# Altium footprint library 元器件.PCBLIB: 210 footprints (part 6 of 14)
Each footprint in its own frame and in the unit in brackets; x right, y up, seen from the top. Pads: shape width x height; smd on the part's side, far side on the other; paste and mask are expansions set on the pad; w line width, h text height; cw(c..) or ccw(c..) is an arc to the next point about the centre after c.
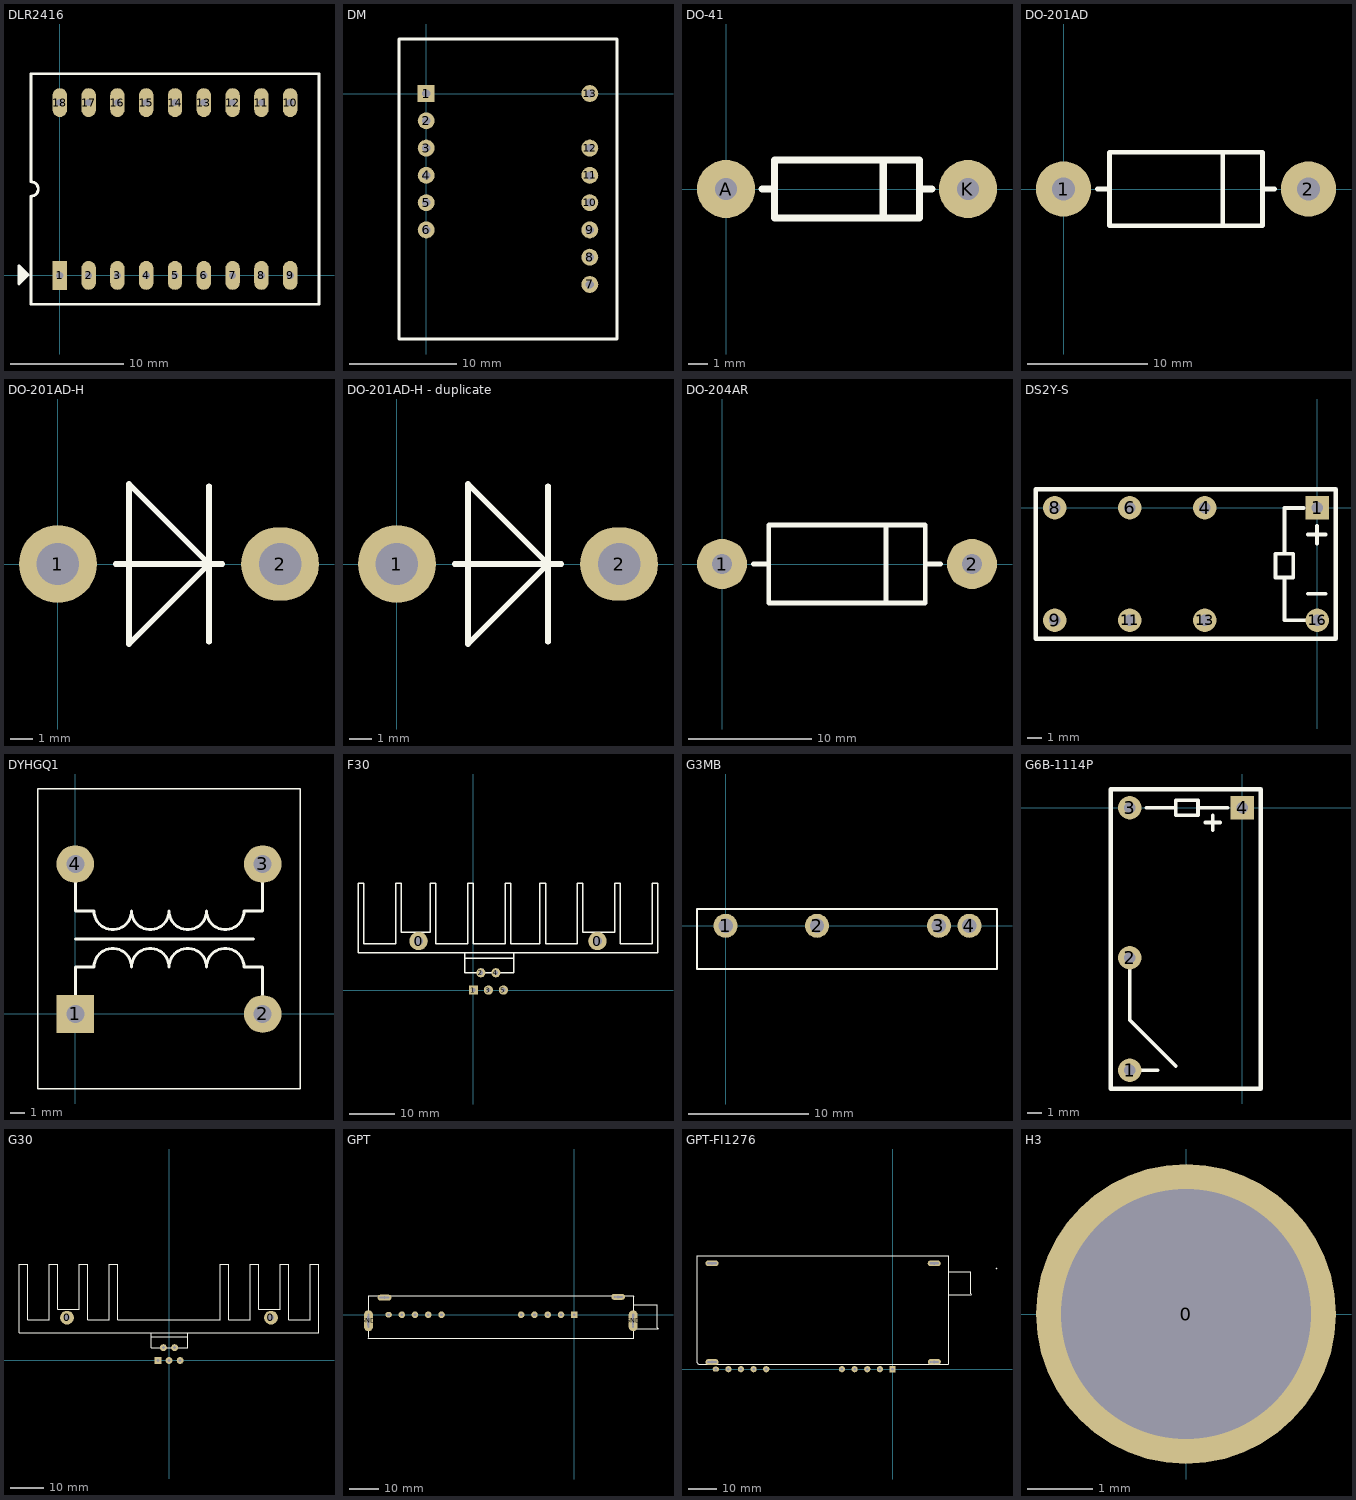
[diagram p5: the footprints below, top view; thin cyan lines are the x and y axes]

## DLR2416 [mil]
pads (18):
  rect 50x100 hole 25: 1(0,0)
  oval 50x100 hole 25: 2(100,0) 3(200,0) 4(300,0) 5(400,0) 6(500,0) 7(600,0) 8(700,0) 9(800,0) 10(800,600) 11(700,600) 12(600,600) 13(500,600) 14(400,600) 15(300,600) 16(200,600) 17(100,600) 18(0,600)
TopOverlay:
  lines w10: -133.87,-17.68 -133.87,13.81 -141.74,21.68 -122.06,2 -141.74,-17.68 -141.74,-29.5 ; -141.74,-29.5 -141.74,33.5 -110.24,2 -141.74,-29.5 ; -100,-100 -100,275 ccw(c-100,300) -100,325 -100,700 900,700 900,-100 -100,-100

## DM [mil]
pads (13):
  rect 62x62 hole 30: 1(0,0)
  round 62 hole 30: 2(0,-100) 3(0,-200) 4(0,-300) 5(0,-400) 6(0,-500) 7(600,-700) 8(600,-600) 9(600,-500) 10(600,-400) 11(600,-300) 12(600,-200) 13(600,0)
TopOverlay:
  lines w12: -100,-900 -100,200 700,200 700,-900 -100,-900

## DO-41 [mil]
pads (2):
  round 120 hole 45: A(0,0) K(500,0)
TopOverlay:
  lines w15: 75,0 100,0 ; 325,-60 325,60 ; 405,0 425,0 ; 100,0 100,-60 400,-60 400,60 100,60 100,0

## DO-201AD [mil]
pads (2):
  round 180 hole 75: 1(0,0) 2(800,0)
TopOverlay:
  lines w15: 110,0 150,0 ; 520,-120 520,120 ; 650,0 690,0 ; 150,0 150,-120 650,-120 650,120 150,120 150,0

## DO-201AD-H [mm]
pads (2):
  round 3.5 hole 1.905: 1(0,0)
  oval 3.5x3.3 hole 1.905: 2(10,0)
TopOverlay:
  lines w0.254: 2.6,0 7.4,0 ; 3.2,-3.6 6.8,0 3.2,3.6 ; 3.2,-3.5 3.2,3.5 ; 6.8,-3.5 6.8,3.5

## DO-201AD-H - duplicate [mm]
height 2.5
pads (2):
  round 3.5 hole 1.905: 1(0,0)
  oval 3.5x3.3 hole 1.905: 2(10,0)
TopOverlay:
  lines w0.254: 2.6,0 7.4,0 ; 3.2,-3.6 6.8,0 3.2,3.6 ; 3.2,-3.5 3.2,3.5 ; 6.8,-3.5 6.8,3.5

## DO-204AR [mil]
pads (2):
  round 160 hole 65: 1(0,0) 2(800,0)
TopOverlay:
  lines w15: 100,0 150,0 ; 525,-125 525,125 ; 650,0 700,0 ; 150,0 150,125 650,125 650,-125 150,-125 150,0

## DS2Y-S [mil]
pads (8):
  rect 62x62 hole 30: 1(0,0)
  round 62 hole 30: 4(-300,0) 6(-500,0) 8(-700,0) 9(-700,-300) 11(-500,-300) 13(-300,-300) 16(0,-300)
TopOverlay:
  lines w10: -87.4,-185.83 -87.4,-300 -32.28,-300 ; -87.4,-122.84 -87.4,-0.79 -36.22,-0.79 ; -24.41,-229.13 22.83,-229.13 ; -24.41,-71.65 22.83,-71.65 ; -0.79,-95.28 -0.79,-48.03 ; -111.02,-185.83 -111.02,-122.84 -63.78,-122.84 -63.78,-185.83 -111.02,-185.83
  lines w12: -750,-350 -750,50 50,50 50,-350 -750,-350

## DYHGQ1 [mil]
pads (4):
  rect 100x100 hole 48: 1(0,0)
  round 100 hole 48: 2(500,0) 3(500,400) 4(0,400)
TopOverlay:
  lines w4: -100,-200 -100,600 600,600 600,-200 -100,-200
  lines w8: 0,50 0,125 50,125 cw(c100,125) 150,125 cw(c200,125) 250,125 cw(c300,125) 350,125 cw(c400,125) 450,125 500,125 500,50 ; 0,200 475,200 ; 0,350 0,275 50,275 ccw(c100,275) 150,275 ccw(c200,275) 250,275 ccw(c300,275) 350,275 ccw(c400,275) 450,275 500,275 500,350

## F30 [mil]
pads (7):
  round 160 hole 80: 0(-475,425) 0(1075,425)
  rect 80x80 hole 36: 1(0,0)
  round 80 hole 36: 2(65,150) 3(130,0) 4(195,150) 5(260,0)
BottomLayer:
  lines w24: 50,150 75,175
TopOverlay:
  lines w12: -75,150 350,150 ; -75,150 -75,325 ; -75,150 -75,325 ; -75,150 350,150 ; -75,325 350,325 ; -75,325 350,325 ; -75,325 350,325 ; 350,150 350,325 ; 350,150 350,325 ; -1000,325 1600,325 1600,925 1550,925 1550,400 1275,400 1275,925 1225,925 1225,500 950,500 950,925 900,925 900,400 625,400 625,925 575,925 575,400 325,400 325,925 275,925 275,400 0,400 0,925 -50,925 -50,400 -325,400 -325,925 -375,925 -375,500 -625,500 -625,925 -675,925 -675,400 -950,400 -950,925 -1000,925 -1000,325 ; -75,275 350,275 -75,275

## G3MB [mm]
pads (4):
  round 2 hole 1.2: 1(0,0) 2(7.62,0) 3(17.78,0) 4(20.32,0)
TopOverlay:
  lines w0.203: -2.38,-3.6 -2.38,1.4 22.62,1.4 22.62,-3.6 -2.38,-3.6

## G6B-1114P [mil]
pads (4):
  round 62 hole 30: 1(-300,-700) 2(-300,-400) 3(-300,0)
  rect 62x62 hole 30: 4(0,0)
TopOverlay:
  lines w10: -300,-700 -225.2,-700 ; -300,-400 -300,-526.77 -300,-566.14 -177.16,-688.98 ; -255.91,0 -177.16,0 ; -118.11,0 -39.37,0 ; -98.42,-39.37 -59.05,-39.37 ; -78.74,-59.05 -78.74,-19.68 ; -177.16,-19.68 -177.16,19.68 -118.11,19.68 -118.11,-19.68 -177.16,-19.68
  lines w12: -350,-750 -350,50 50,50 50,-750 -350,-750

## G30 [mil]
pads (7):
  round 160 hole 70: 0(-1190,500) 0(1190,500)
  rect 80x80 hole 36: 1(-130,0)
  round 80 hole 36: 2(-65,150) 3(0,0) 4(65,150) 5(130,0)
TopOverlay:
  lines w12: -205,150 220,150 ; -205,150 -205,325 ; -205,150 -205,325 ; -205,150 220,150 ; -205,325 220,325 ; -205,325 220,325 ; -205,325 220,325 ; 220,150 220,325 ; 220,150 220,325 ; -1750,325 -1750,1125 -1650,1125 -1650,475 -1400,475 -1400,1125 -1300,1125 -1300,600 -1050,600 -1050,1125 -950,1125 -950,475 -700,475 -700,1125 -600,1125 -600,475 600,475 600,1125 700,1125 700,475 950,475 950,1125 1050,1125 1050,600 1300,600 1300,1125 1400,1125 1400,475 1650,475 1650,1125 1750,1125 1750,325 -1750,325 ; -205,275 220,275 -205,275

## GPT [mm]
pads (31):
  round 1.524 hole 0.762: 0(-69,0.1) 1(-69,-0.5) 2(-69.048,-1.128) 3(-69,-1.5) 4(-69.048,-2.652) 5(-69.048,-3.414) 6(-69,-4) 7(-69,-4) 8(19.8,0.1) 9(19.8,-0.3) 10(19.7,-0.73) 11(19.7,-1.3) 12(19.7,-1.8) 13(19.7,-2.6) 14(19.7,-3.27) 15(19.7,-3.8) 16(19.7,-4.1)
  rect 2.2x2.2 hole 0.9: 1(0,0)
  round 2.2 hole 0.9: 2(-4.43,0.01) 3(-8.89,0.01) 4(-13.35,0.01) 5(-17.81,0.01) 6(-44.49,0.01) 7(-48.95,0.01) 8(-53.4,0.01) 9(-57.8,0.01)
  oval 2.2x1.8 hole 0.9: 10(-62.26,0.01)
  oval 3x7 hole 1: GND(-69,-2) GND(19.738,-2.032)
  oval 4.6x2 hole 1: GND(-63.61,5.73) GND(14.72,6)
via 19.7,-0.73 diameter 1.27 hole 0.711
via 19.7,-0.984 diameter 1.27 hole 0.711
via 19.7,-2 diameter 1.27 hole 0.711
via 19.7,-1.492 diameter 1.27 hole 0.711
via 19.7,-3.27 diameter 1.27 hole 0.711
via 19.7,-2.508 diameter 1.27 hole 0.711
via 19.7,-2.762 diameter 1.27 hole 0.711
via 19.7,-3.016 diameter 1.27 hole 0.711
via 19.7,-3.27 diameter 1.27 hole 0.711
via 16.002,5.94 diameter 1.27 hole 0.711
via 15.748,5.94 diameter 1.27 hole 0.711
via 15.494,5.94 diameter 1.27 hole 0.711
via 15.24,5.94 diameter 1.27 hole 0.711
via 14.478,5.94 diameter 1.27 hole 0.711
via 13.97,5.94 diameter 1.27 hole 0.711
via 13.462,5.94 diameter 1.27 hole 0.711
via -62.23,5.74 diameter 1.27 hole 0.711
via -62.484,5.74 diameter 1.27 hole 0.711
via -62.738,5.74 diameter 1.27 hole 0.711
via -62.992,5.74 diameter 1.27 hole 0.711
via -63.246,5.74 diameter 1.27 hole 0.711
via -64.008,5.74 diameter 1.27 hole 0.711
via -64.262,5.74 diameter 1.27 hole 0.711
via -64.516,5.74 diameter 1.27 hole 0.711
via -64.77,5.74 diameter 1.27 hole 0.711
via -65.024,5.74 diameter 1.27 hole 0.711
via -69.048,-0.62 diameter 1.27 hole 0.711
via -69.048,-0.874 diameter 1.27 hole 0.711
via -69.048,-1.128 diameter 1.27 hole 0.711
via -69.048,-1.382 diameter 1.27 hole 0.711
via -69.048,-1.636 diameter 1.27 hole 0.711
via -69.048,-2.398 diameter 1.27 hole 0.711
via -69.048,-2.652 diameter 1.27 hole 0.711
via -69.048,-2.906 diameter 1.27 hole 0.711
via -69.048,-3.16 diameter 1.27 hole 0.711
via -69.048,-3.414 diameter 1.27 hole 0.711
via 19.7,-1.492 diameter 1.27 hole 0.711
via 19.7,-2.508 diameter 1.27 hole 0.711
via 19.7,-3.016 diameter 1.27 hole 0.711
via 19.7,-3.27 diameter 1.27 hole 0.711
TopOverlay:
  lines w0.254: -68.9,0 -68.9,6.29 -68.79,6.4 19.76,6.4 19.9,6.26 19.9,-7.8 -69.1,-7.8 -68.9,-7.6 -68.9,-0.2 -68.9,0.3 ; 20.06,-4.96 20.32,-4.7 28.07,-4.7 27.81,-4.44 27.81,3.31 20.06,3.31

## GPT-FI1276 [mm]
pads (14):
  rect 2.2x2.2 hole 0.9: 1(0,0)
  round 2.2 hole 0.9: 2(-4.43,0.01) 3(-8.89,0.01) 4(-13.35,0.01) 5(-17.81,0.01) 6(-44.49,0.01) 7(-48.95,0.01) 8(-53.4,0.01) 9(-57.8,0.01)
  oval 2.2x1.8 hole 0.9: 10(-62.26,0.01)
  oval 4.6x2 hole 1: GND(-63.61,2.53) GND(-63.61,37.29) GND(14.7,37.3) GND(14.72,2.6)
via 16.002,37.338 diameter 1.27 hole 0.711
via 15.748,37.338 diameter 1.27 hole 0.711
via 14.732,37.338 diameter 1.27 hole 0.711
via 15.24,37.338 diameter 1.27 hole 0.711
via 13.462,37.338 diameter 1.27 hole 0.711
via 14.224,37.338 diameter 1.27 hole 0.711
via 13.97,37.338 diameter 1.27 hole 0.711
via 13.716,37.338 diameter 1.27 hole 0.711
via 13.462,37.338 diameter 1.27 hole 0.711
via 16.002,2.54 diameter 1.27 hole 0.711
via 15.748,2.54 diameter 1.27 hole 0.711
via 15.494,2.54 diameter 1.27 hole 0.711
via 15.24,2.54 diameter 1.27 hole 0.711
via 14.478,2.54 diameter 1.27 hole 0.711
via 13.97,2.54 diameter 1.27 hole 0.711
via 13.462,2.54 diameter 1.27 hole 0.711
via -62.23,2.54 diameter 1.27 hole 0.711
via -62.484,2.54 diameter 1.27 hole 0.711
via -62.738,2.54 diameter 1.27 hole 0.711
via -62.992,2.54 diameter 1.27 hole 0.711
via -63.246,2.54 diameter 1.27 hole 0.711
via -64.008,2.54 diameter 1.27 hole 0.711
via -64.262,2.54 diameter 1.27 hole 0.711
via -64.516,2.54 diameter 1.27 hole 0.711
via -64.77,2.54 diameter 1.27 hole 0.711
via -65.024,2.54 diameter 1.27 hole 0.711
via -62.23,37.338 diameter 1.27 hole 0.711
via -62.484,37.338 diameter 1.27 hole 0.711
via -62.738,37.338 diameter 1.27 hole 0.711
via -62.992,37.338 diameter 1.27 hole 0.711
via -63.246,37.338 diameter 1.27 hole 0.711
via -64.008,37.338 diameter 1.27 hole 0.711
via -64.262,37.338 diameter 1.27 hole 0.711
via -64.516,37.338 diameter 1.27 hole 0.711
via -64.77,37.338 diameter 1.27 hole 0.711
via -65.024,37.338 diameter 1.27 hole 0.711
via 15.24,37.338 diameter 1.27 hole 0.711
via 14.224,37.338 diameter 1.27 hole 0.711
via 13.716,37.338 diameter 1.27 hole 0.711
via 13.462,37.338 diameter 1.27 hole 0.711
TopOverlay:
  lines w0.254: -68.37,1.76 -68.89,2.28 -68.89,40.01 19.76,40.01 19.76,39.24 19.76,38.46 19.76,1.96 19.56,1.76 -68.11,1.76 ; 19.76,26.05 20.02,26.31 27.77,26.31 27.51,26.57 27.51,34.32 19.76,34.32 ; 36.56,35.412 36.82,35.672

## H3 [mil]
pads (1):
  round 180 hole 150: 0(0,0)
TopLayer:
  circle w0: c0,0 r75
BottomLayer:
  circle w12: c0,0 r75
TopOverlay:
  circle w12: c0,0 r75
Mechanical1:
  circle w12: c0,0 r75